# Altium footprint library NHD-C0216CIZ-FSW-FBW-3V3.PcbLib: 1 footprints
Each footprint in its own frame and in the unit in brackets; x right, y up, seen from the top. Pads: shape width x height; smd on the part's side, far side on the other; paste and mask are expansions set on the pad; w line width, h text height; cw(c..) or ccw(c..) is an arc to the next point about the centre after c.
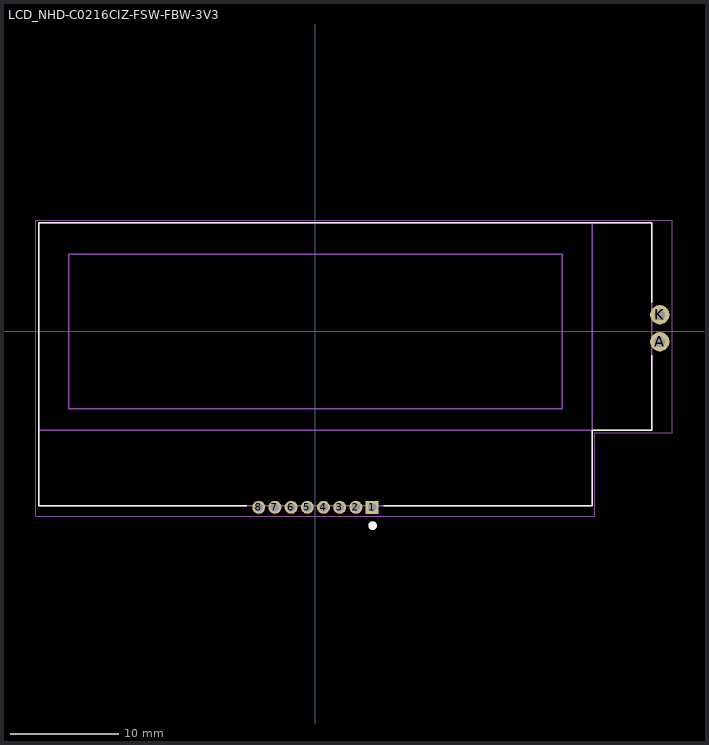
[diagram p0: the footprint, top view; thin cyan lines are the x and y axes]

## LCD_NHD-C0216CIZ-FSW-FBW-3V3 [mm]
pads (10):
  rect 1.2x1.2 hole 0.8: 1(5.25,-16.3)
  round 1.2 hole 0.8: 2(3.75,-16.3) 3(2.25,-16.3) 4(0.75,-16.3) 5(-0.75,-16.3) 6(-2.25,-16.3) 7(-3.75,-16.3) 8(-5.25,-16.3)
  round 1.8 hole 1: A(31.9,-0.96) K(31.9,1.54)
Top Overlay:
  circle w0.4: c5.3,-18 r0.2
  lines w0.127: -6.35,-16.15 -25.65,-16.15 -25.65,10.05 31.15,10.05 31.15,2.7 ; 6.35,-16.15 25.65,-16.15 25.65,-9.15 31.15,-9.15 31.15,-2.2
Mechanical 13:
  circle w0.4: c5.3,-18 r0.2
  lines w0.127: -25.65,-9.15 -25.65,-16.15 25.65,-16.15 25.65,-9.15 ; -25.65,-9.15 -25.65,10.05 25.65,10.05 ; -25.65,-9.15 25.65,-9.15 ; 25.65,-9.15 31.15,-9.15 31.15,10.05 25.65,10.05 ; 25.65,-9.15 25.65,10.05 ; -22.85,-7.15 -22.85,7.15 22.85,7.15 22.85,-7.15 -22.85,-7.15
Mechanical 15:
  lines w0.05: -25.9,-17.15 -25.9,10.3 33.05,10.3 33.05,-9.4 25.9,-9.4 25.9,-17.15 -25.9,-17.15
3D body "step_temp.STEP": height 6, standoff -4.4, extent -25.623,-16.51 32.177,9.99